# Altium schematic symbol library 687 1xx 140 22.SchLib: 24 symbols
Pins are listed as number, name and electrical type; pins without a type are passive.

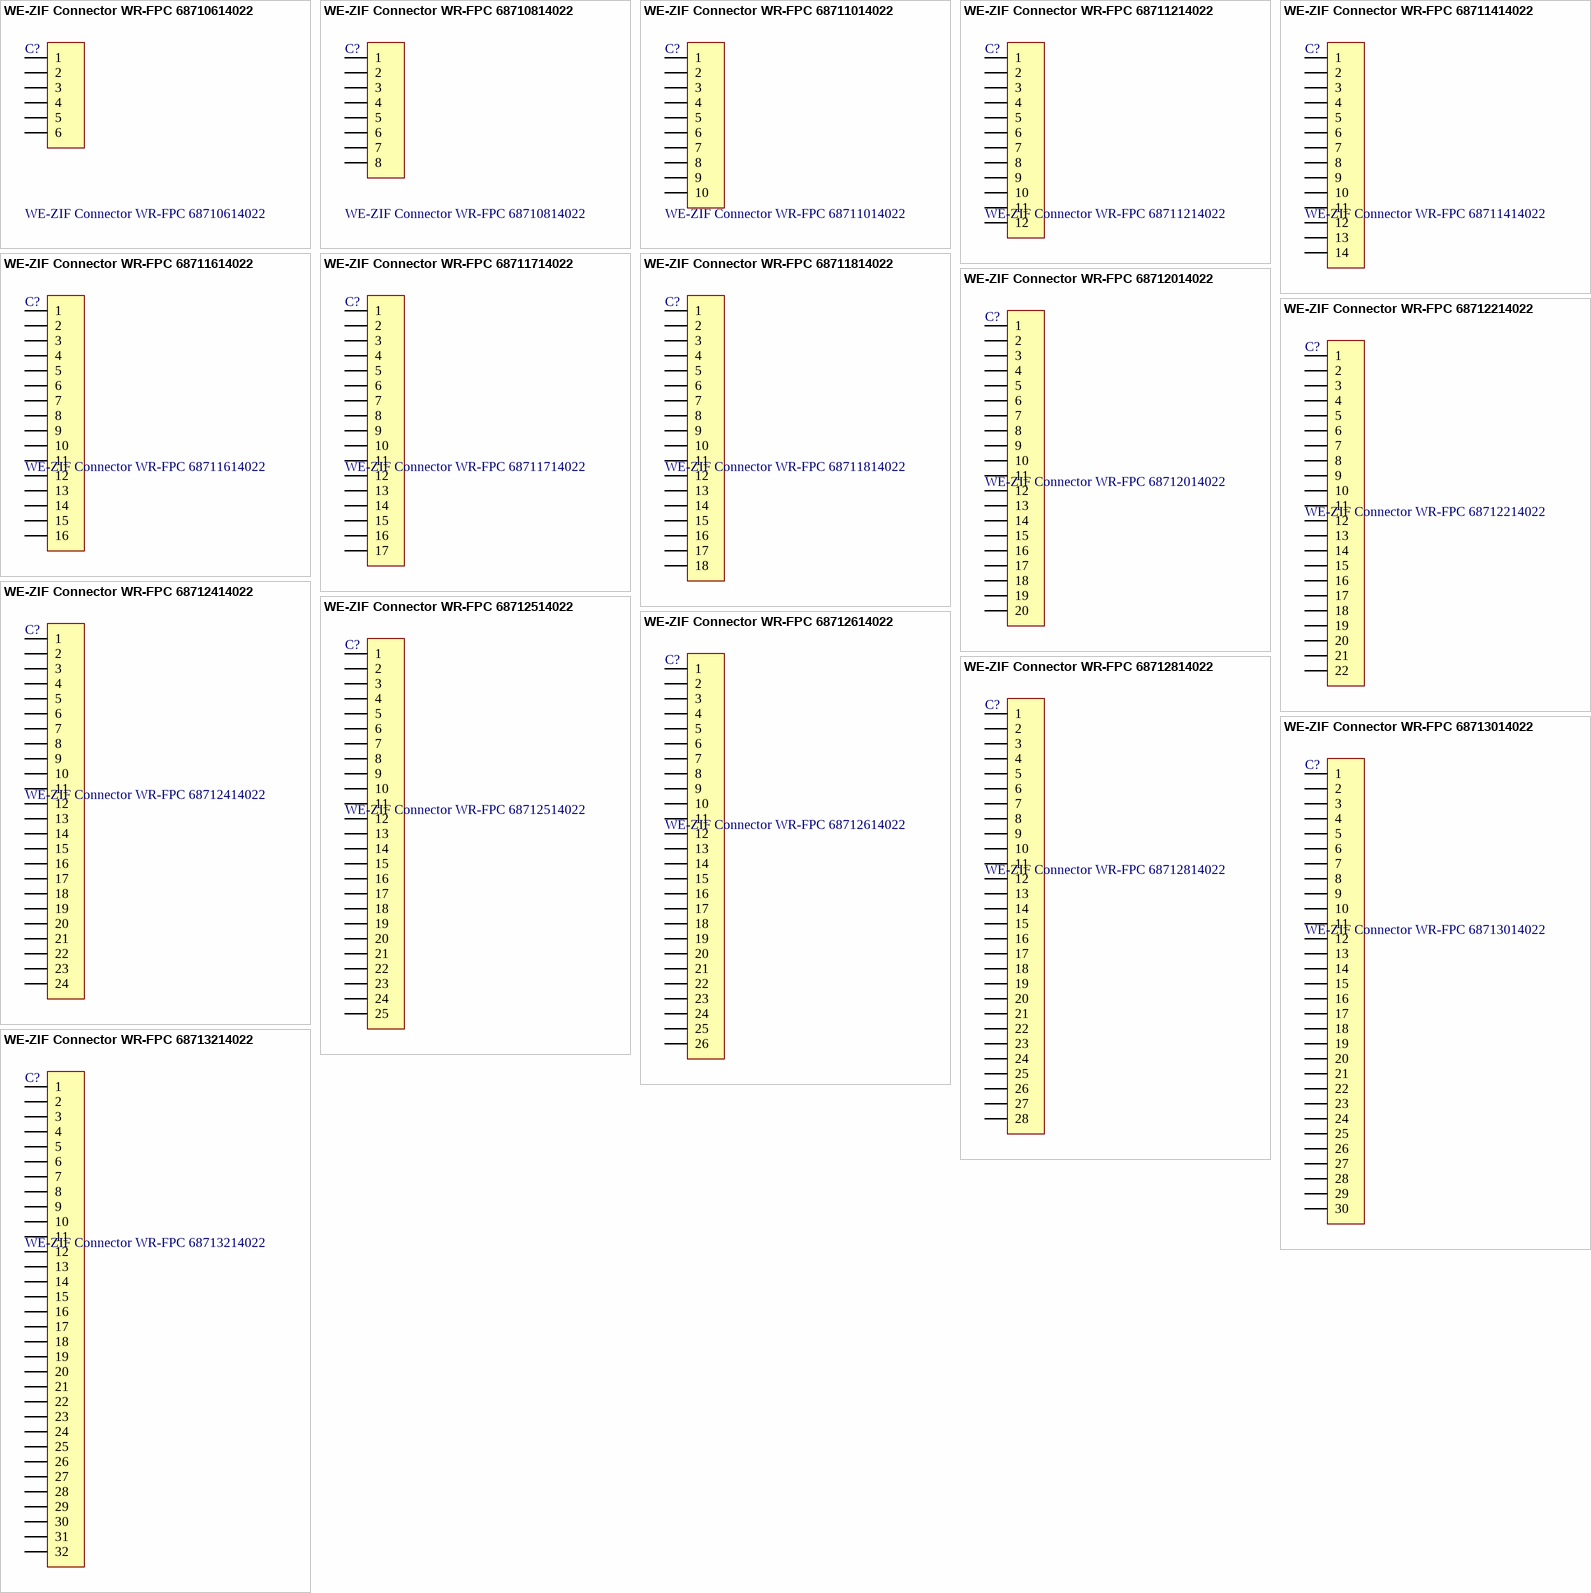
[diagram p0: symbols WE-ZIF Connector WR-FPC 68710614022 to WE-ZIF Connector WR-FPC 68713214022]

## WE-ZIF Connector WR-FPC 68710614022
designator C?
WR-FPC 0.50mm SMT ZIF Horizontal Top Contact; Manufacturer: Würth Elektronik eiSos GmbH; ComponentLink1 Description: Manufacturer; ComponentLink2 Description: Datasheet; NoPins: 06; Created Date: 21 October 2013; partNo: 68710614022; ComponentLink1URL: http://www.we-online.com; ComponentLink2URL: http://katalog.we-online.de/em/datasheet/6871xx14022.pdf; Created by: Karrer Zheng
footprint 68710614022 (06 pins)
pins: 1, 2, 3, 4, 5, 6

## WE-ZIF Connector WR-FPC 68710814022
designator C?
WR-FPC 0.50mm SMT ZIF Horizontal Top Contact; Manufacturer: Würth Elektronik eiSos GmbH; ComponentLink1 Description: Manufacturer; ComponentLink2 Description: Datasheet; NoPins: 08; Created Date: 21 October 2013; partNo: 68710814022; ComponentLink1URL: http://www.we-online.com; ComponentLink2URL: http://katalog.we-online.de/em/datasheet/6871xx14022.pdf; Created by: Karrer Zheng
footprint 68710814022 (08 pins)
pins: 1, 2, 3, 4, 5, 6, 7, 8

## WE-ZIF Connector WR-FPC 68711014022
designator C?
WR-FPC 0.50mm SMT ZIF Horizontal Top Contact; Manufacturer: Würth Elektronik eiSos GmbH; ComponentLink1 Description: Manufacturer; ComponentLink2 Description: Datasheet; NoPins: 10; Created Date: 21 October 2013; partNo: 68711014022; ComponentLink1URL: http://www.we-online.com; ComponentLink2URL: http://katalog.we-online.de/em/datasheet/6871xx14022.pdf; Created by: Karrer Zheng
footprint 68711014022 (10 pins)
pins: 1, 2, 3, 4, 5, 6, 7, 8, 9, 10

## WE-ZIF Connector WR-FPC 68711214022
designator C?
WR-FPC 0.50mm SMT ZIF Horizontal Top Contact; Manufacturer: Würth Elektronik eiSos GmbH; ComponentLink1 Description: Manufacturer; ComponentLink2 Description: Datasheet; NoPins: 12; Created Date: 21 October 2013; partNo: 68711214022; ComponentLink1URL: http://www.we-online.com; ComponentLink2URL: http://katalog.we-online.de/em/datasheet/6871xx14022.pdf; Created by: Karrer Zheng
footprint 68711214022 (12 pins)
pins: 1, 2, 3, 4, 5, 6, 7, 8, 9, 10, 11, 12

## WE-ZIF Connector WR-FPC 68711414022
designator C?
WR-FPC 0.50mm SMT ZIF Horizontal Top Contact; Manufacturer: Würth Elektronik eiSos GmbH; ComponentLink1 Description: Manufacturer; ComponentLink2 Description: Datasheet; NoPins: 14; Created Date: 21 October 2013; partNo: 68711414022; ComponentLink1URL: http://www.we-online.com; ComponentLink2URL: http://katalog.we-online.de/em/datasheet/6871xx14022.pdf; Created by: Karrer Zheng
footprint 68711414022 (14 pins)
pins: 1, 2, 3, 4, 5, 6, 7, 8, 9, 10, 11, 12, 13, 14

## WE-ZIF Connector WR-FPC 68711614022
designator C?
WR-FPC 0.50mm SMT ZIF Horizontal Top Contact; Manufacturer: Würth Elektronik eiSos GmbH; ComponentLink1 Description: Manufacturer; ComponentLink2 Description: Datasheet; NoPins: 16; Created Date: 21 October 2013; partNo: 68711614022; ComponentLink1URL: http://www.we-online.com; ComponentLink2URL: http://katalog.we-online.de/em/datasheet/6871xx14022.pdf; Created by: Karrer Zheng
footprint 68711614022 (16 pins)
pins: 1, 2, 3, 4, 5, 6, 7, 8, 9, 10, 11, 12, 13, 14, 15, 16

## WE-ZIF Connector WR-FPC 68711714022
designator C?
WR-FPC 0.50mm SMT ZIF Horizontal Top Contact; Manufacturer: Würth Elektronik eiSos GmbH; ComponentLink1 Description: Manufacturer; ComponentLink2 Description: Datasheet; NoPins: 17; Created Date: 21 October 2013; partNo: 68711714022; ComponentLink1URL: http://www.we-online.com; ComponentLink2URL: http://katalog.we-online.de/em/datasheet/6871xx14022.pdf; Created by: Karrer Zheng
footprint 68711714022 (17 pins)
pins: 1, 2, 3, 4, 5, 6, 7, 8, 9, 10, 11, 12, 13, 14, 15, 16, 17

## WE-ZIF Connector WR-FPC 68711814022
designator C?
WR-FPC 0.50mm SMT ZIF Horizontal Top Contact; Manufacturer: Würth Elektronik eiSos GmbH; ComponentLink1 Description: Manufacturer; ComponentLink2 Description: Datasheet; NoPins: 18; Created Date: 21 October 2013; partNo: 68711814022; ComponentLink1URL: http://www.we-online.com; ComponentLink2URL: http://katalog.we-online.de/em/datasheet/6871xx14022.pdf; Created by: Karrer Zheng
footprint 68711814022 (18 pins)
pins: 1, 2, 3, 4, 5, 6, 7, 8, 9, 10, 11, 12, 13, 14, 15, 16, 17, 18

## WE-ZIF Connector WR-FPC 68712014022
designator C?
WR-FPC 0.50mm SMT ZIF Horizontal Top Contact; Manufacturer: Würth Elektronik eiSos GmbH; ComponentLink1 Description: Manufacturer; ComponentLink2 Description: Datasheet; NoPins: 20; Created Date: 21 October 2013; partNo: 68712014022; ComponentLink1URL: http://www.we-online.com; ComponentLink2URL: http://katalog.we-online.de/em/datasheet/6871xx14022.pdf; Created by: Karrer Zheng
footprint 68712014022 (20 pins)
pins: 1, 2, 3, 4, 5, 6, 7, 8, 9, 10, 11, 12, 13, 14, 15, 16, 17, 18, 19, 20

## WE-ZIF Connector WR-FPC 68712214022
designator C?
WR-FPC 0.50mm SMT ZIF Horizontal Top Contact; Manufacturer: Würth Elektronik eiSos GmbH; ComponentLink1 Description: Manufacturer; ComponentLink2 Description: Datasheet; NoPins: 22; Created Date: 21 October 2013; partNo: 68712214022; ComponentLink1URL: http://www.we-online.com; ComponentLink2URL: http://katalog.we-online.de/em/datasheet/6871xx14022.pdf; Created by: Karrer Zheng
footprint 68712214022 (22 pins)
pins: 1, 2, 3, 4, 5, 6, 7, 8, 9, 10, 11, 12, 13, 14, 15, 16, 17, 18, 19, 20, 21, 22

## WE-ZIF Connector WR-FPC 68712414022
designator C?
WR-FPC 0.50mm SMT ZIF Horizontal Top Contact; Manufacturer: Würth Elektronik eiSos GmbH; ComponentLink1 Description: Manufacturer; ComponentLink2 Description: Datasheet; NoPins: 24; Created Date: 21 October 2013; partNo: 68712414022; ComponentLink1URL: http://www.we-online.com; ComponentLink2URL: http://katalog.we-online.de/em/datasheet/6871xx14022.pdf; Created by: Karrer Zheng
footprint 68712414022 (24 pins)
pins: 1, 2, 3, 4, 5, 6, 7, 8, 9, 10, 11, 12, 13, 14, 15, 16, 17, 18, 19, 20, 21, 22, 23, 24

## WE-ZIF Connector WR-FPC 68712514022
designator C?
WR-FPC 0.50mm SMT ZIF Horizontal Top Contact; Manufacturer: Würth Elektronik eiSos GmbH; ComponentLink1 Description: Manufacturer; ComponentLink2 Description: Datasheet; NoPins: 25; Created Date: 21 October 2013; partNo: 68712514022; ComponentLink1URL: http://www.we-online.com; ComponentLink2URL: http://katalog.we-online.de/em/datasheet/6871xx14022.pdf; Created by: Karrer Zheng
footprint 68712514022 (25 pins)
pins: 1, 2, 3, 4, 5, 6, 7, 8, 9, 10, 11, 12, 13, 14, 15, 16, 17, 18, 19, 20, 21, 22, 23, 24, 25

## WE-ZIF Connector WR-FPC 68712614022
designator C?
WR-FPC 0.50mm SMT ZIF Horizontal Top Contact; Manufacturer: Würth Elektronik eiSos GmbH; ComponentLink1 Description: Manufacturer; ComponentLink2 Description: Datasheet; NoPins: 26; Created Date: 21 October 2013; partNo: 68712614022; ComponentLink1URL: http://www.we-online.com; ComponentLink2URL: http://katalog.we-online.de/em/datasheet/6871xx14022.pdf; Created by: Karrer Zheng
footprint 68712614022 (26 pins)
pins: 1, 2, 3, 4, 5, 6, 7, 8, 9, 10, 11, 12, 13, 14, 15, 16, 17, 18, 19, 20, 21, 22, 23, 24, 25, 26

## WE-ZIF Connector WR-FPC 68712814022
designator C?
WR-FPC 0.50mm SMT ZIF Horizontal Top Contact; Manufacturer: Würth Elektronik eiSos GmbH; ComponentLink1 Description: Manufacturer; ComponentLink2 Description: Datasheet; NoPins: 28; Created Date: 21 October 2013; partNo: 68712814022; ComponentLink1URL: http://www.we-online.com; ComponentLink2URL: http://katalog.we-online.de/em/datasheet/6871xx14022.pdf; Created by: Karrer Zheng
footprint 68712814022 (28 pins)
pins: 1, 2, 3, 4, 5, 6, 7, 8, 9, 10, 11, 12, 13, 14, 15, 16, 17, 18, 19, 20, 21, 22, 23, 24, 25, 26, 27, 28

## WE-ZIF Connector WR-FPC 68713014022
designator C?
WR-FPC 0.50mm SMT ZIF Horizontal Top Contact; Manufacturer: Würth Elektronik eiSos GmbH; ComponentLink1 Description: Manufacturer; ComponentLink2 Description: Datasheet; NoPins: 30; Created Date: 21 October 2013; partNo: 68713014022; ComponentLink1URL: http://www.we-online.com; ComponentLink2URL: http://katalog.we-online.de/em/datasheet/6871xx14022.pdf; Created by: Karrer Zheng
footprint 68713014022 (30 pins)
pins: 1, 2, 3, 4, 5, 6, 7, 8, 9, 10, 11, 12, 13, 14, 15, 16, 17, 18, 19, 20, 21, 22, 23, 24, 25, 26, 27, 28, 29, 30

## WE-ZIF Connector WR-FPC 68713214022
designator C?
WR-FPC 0.50mm SMT ZIF Horizontal Top Contact; Manufacturer: Würth Elektronik eiSos GmbH; ComponentLink1 Description: Manufacturer; ComponentLink2 Description: Datasheet; NoPins: 32; Created Date: 21 October 2013; partNo: 68713214022; ComponentLink1URL: http://www.we-online.com; ComponentLink2URL: http://katalog.we-online.de/em/datasheet/6871xx14022.pdf; Created by: Karrer Zheng
footprint 68713214022 (32 pins)
pins: 1, 2, 3, 4, 5, 6, 7, 8, 9, 10, 11, 12, 13, 14, 15, 16, 17, 18, 19, 20, 21, 22, 23, 24, 25, 26, 27, 28, 29, 30, 31, 32

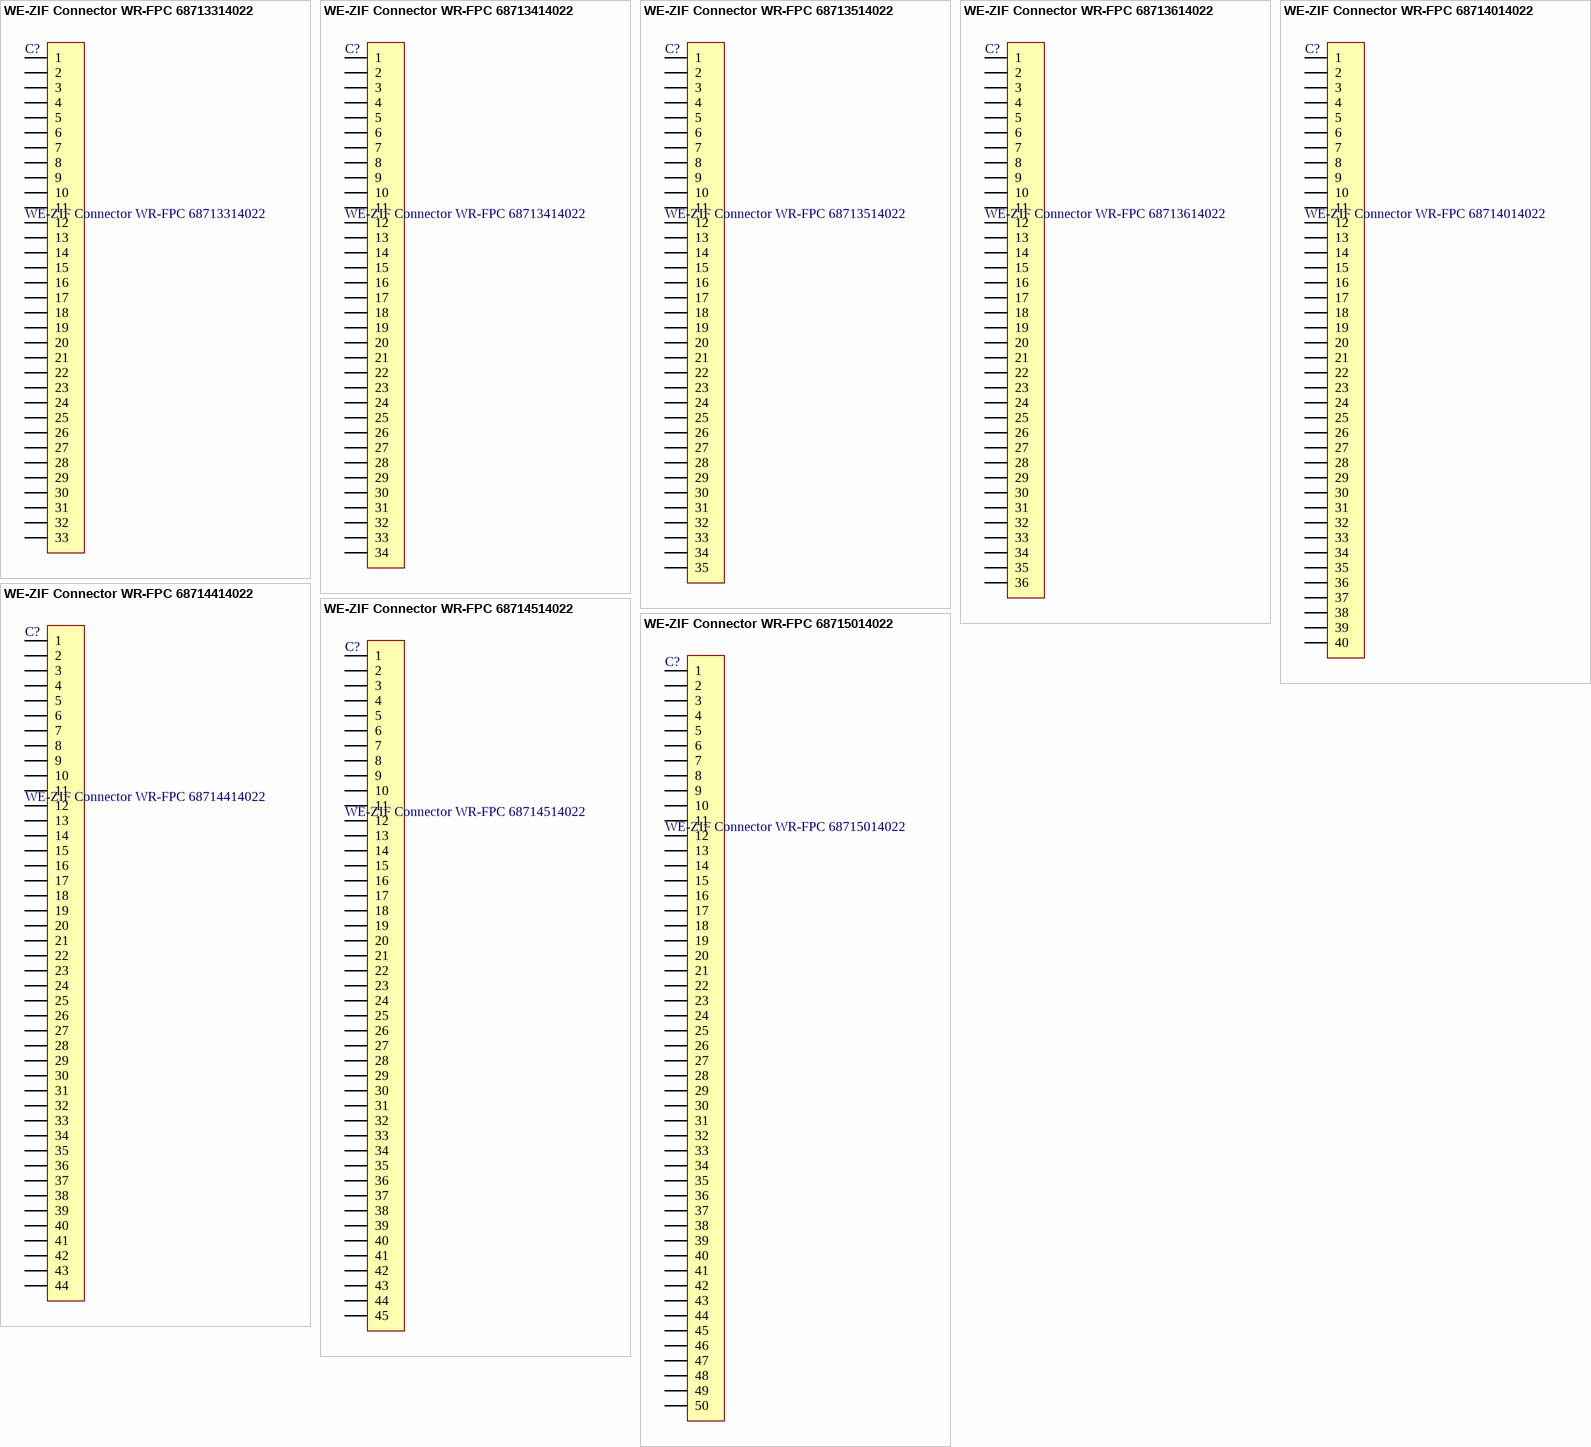
[diagram p1: symbols WE-ZIF Connector WR-FPC 68713314022 to WE-ZIF Connector WR-FPC 68715014022]

## WE-ZIF Connector WR-FPC 68713314022
designator C?
WR-FPC 0.50mm SMT ZIF Horizontal Top Contact; Manufacturer: Würth Elektronik eiSos GmbH; ComponentLink1 Description: Manufacturer; ComponentLink2 Description: Datasheet; NoPins: 33; Created Date: 21 October 2013; partNo: 68713314022; ComponentLink1URL: http://www.we-online.com; ComponentLink2URL: http://katalog.we-online.de/em/datasheet/6871xx14022.pdf; Created by: Karrer Zheng
footprint 68713314022 (33 pins)
pins: 1, 2, 3, 4, 5, 6, 7, 8, 9, 10, 11, 12, 13, 14, 15, 16, 17, 18, 19, 20, 21, 22, 23, 24, 25, 26, 27, 28, 29, 30, 31, 32, 33

## WE-ZIF Connector WR-FPC 68713414022
designator C?
WR-FPC 0.50mm SMT ZIF Horizontal Top Contact; Manufacturer: Würth Elektronik eiSos GmbH; ComponentLink1 Description: Manufacturer; ComponentLink2 Description: Datasheet; NoPins: 34; Created Date: 21 October 2013; partNo: 68713414022; ComponentLink1URL: http://www.we-online.com; ComponentLink2URL: http://katalog.we-online.de/em/datasheet/6871xx14022.pdf; Created by: Karrer Zheng
footprint 68713414022 (34 pins)
pins: 1, 2, 3, 4, 5, 6, 7, 8, 9, 10, 11, 12, 13, 14, 15, 16, 17, 18, 19, 20, 21, 22, 23, 24, 25, 26, 27, 28, 29, 30, 31, 32, 33, 34

## WE-ZIF Connector WR-FPC 68713514022
designator C?
WR-FPC 0.50mm SMT ZIF Horizontal Top Contact; Manufacturer: Würth Elektronik eiSos GmbH; ComponentLink1 Description: Manufacturer; ComponentLink2 Description: Datasheet; NoPins: 35; Created Date: 21 October 2013; partNo: 68713514022; ComponentLink1URL: http://www.we-online.com; ComponentLink2URL: http://katalog.we-online.de/em/datasheet/6871xx14022.pdf; Created by: Karrer Zheng
footprint 68713514022 (35 pins)
pins: 1, 2, 3, 4, 5, 6, 7, 8, 9, 10, 11, 12, 13, 14, 15, 16, 17, 18, 19, 20, 21, 22, 23, 24, 25, 26, 27, 28, 29, 30, 31, 32, 33, 34, 35

## WE-ZIF Connector WR-FPC 68713614022
designator C?
WR-FPC 0.50mm SMT ZIF Horizontal Top Contact; Manufacturer: Würth Elektronik eiSos GmbH; ComponentLink1 Description: Manufacturer; ComponentLink2 Description: Datasheet; NoPins: 36; Created Date: 21 October 2013; partNo: 68713614022; ComponentLink1URL: http://www.we-online.com; ComponentLink2URL: http://katalog.we-online.de/em/datasheet/6871xx14022.pdf; Created by: Karrer Zheng
footprint 68713614022 (36 pins)
pins: 1, 2, 3, 4, 5, 6, 7, 8, 9, 10, 11, 12, 13, 14, 15, 16, 17, 18, 19, 20, 21, 22, 23, 24, 25, 26, 27, 28, 29, 30, 31, 32, 33, 34, 35, 36

## WE-ZIF Connector WR-FPC 68714014022
designator C?
WR-FPC 0.50mm SMT ZIF Horizontal Top Contact; Manufacturer: Würth Elektronik eiSos GmbH; ComponentLink1 Description: Manufacturer; ComponentLink2 Description: Datasheet; NoPins: 40; Created Date: 21 October 2013; partNo: 68714014022; ComponentLink1URL: http://www.we-online.com; ComponentLink2URL: http://katalog.we-online.de/em/datasheet/6871xx14022.pdf; Created by: Karrer Zheng
footprint 68714014022 (40 pins)
pins: 1, 2, 3, 4, 5, 6, 7, 8, 9, 10, 11, 12, 13, 14, 15, 16, 17, 18, 19, 20, 21, 22, 23, 24, 25, 26, 27, 28, 29, 30, 31, 32, 33, 34, 35, 36, 37, 38, 39, 40

## WE-ZIF Connector WR-FPC 68714414022
designator C?
WR-FPC 0.50mm SMT ZIF Horizontal Top Contact; Manufacturer: Würth Elektronik eiSos GmbH; ComponentLink1 Description: Manufacturer; ComponentLink2 Description: Datasheet; NoPins: 44; Created Date: 21 October 2013; partNo: 68714414022; ComponentLink1URL: http://www.we-online.com; ComponentLink2URL: http://katalog.we-online.de/em/datasheet/6871xx14022.pdf; Created by: Karrer Zheng
footprint 68714414022 (44 pins)
pins: 1, 2, 3, 4, 5, 6, 7, 8, 9, 10, 11, 12, 13, 14, 15, 16, 17, 18, 19, 20, 21, 22, 23, 24, 25, 26, 27, 28, 29, 30, 31, 32, 33, 34, 35, 36, 37, 38, 39, 40, 41, 42, 43, 44

## WE-ZIF Connector WR-FPC 68714514022
designator C?
WR-FPC 0.50mm SMT ZIF Horizontal Top Contact; Manufacturer: Würth Elektronik eiSos GmbH; ComponentLink1 Description: Manufacturer; ComponentLink2 Description: Datasheet; NoPins: 45; Created Date: 21 October 2013; partNo: 68714514022; ComponentLink1URL: http://www.we-online.com; ComponentLink2URL: http://katalog.we-online.de/em/datasheet/6871xx14022.pdf; Created by: Karrer Zheng
footprint 68714514022 (45 pins)
pins: 1, 2, 3, 4, 5, 6, 7, 8, 9, 10, 11, 12, 13, 14, 15, 16, 17, 18, 19, 20, 21, 22, 23, 24, 25, 26, 27, 28, 29, 30, 31, 32, 33, 34, 35, 36, 37, 38, 39, 40, 41, 42, 43, 44, 45

## WE-ZIF Connector WR-FPC 68715014022
designator C?
WR-FPC 0.50mm SMT ZIF Horizontal Top Contact; Manufacturer: Würth Elektronik eiSos GmbH; ComponentLink1 Description: Manufacturer; ComponentLink2 Description: Datasheet; NoPins: 50; Created Date: 21 October 2013; partNo: 68715014022; ComponentLink1URL: http://www.we-online.com; ComponentLink2URL: http://katalog.we-online.de/em/datasheet/6871xx14022.pdf; Created by: Karrer Zheng
footprint 68715014022 (50 pins)
pins: 1, 2, 3, 4, 5, 6, 7, 8, 9, 10, 11, 12, 13, 14, 15, 16, 17, 18, 19, 20, 21, 22, 23, 24, 25, 26, 27, 28, 29, 30, 31, 32, 33, 34, 35, 36, 37, 38, 39, 40, 41, 42, 43, 44, 45, 46, 47, 48, 49, 50